# Altium integrated library Linear Technology Power Management Battery Management.IntLib: 626 symbols (part 32 of 56)
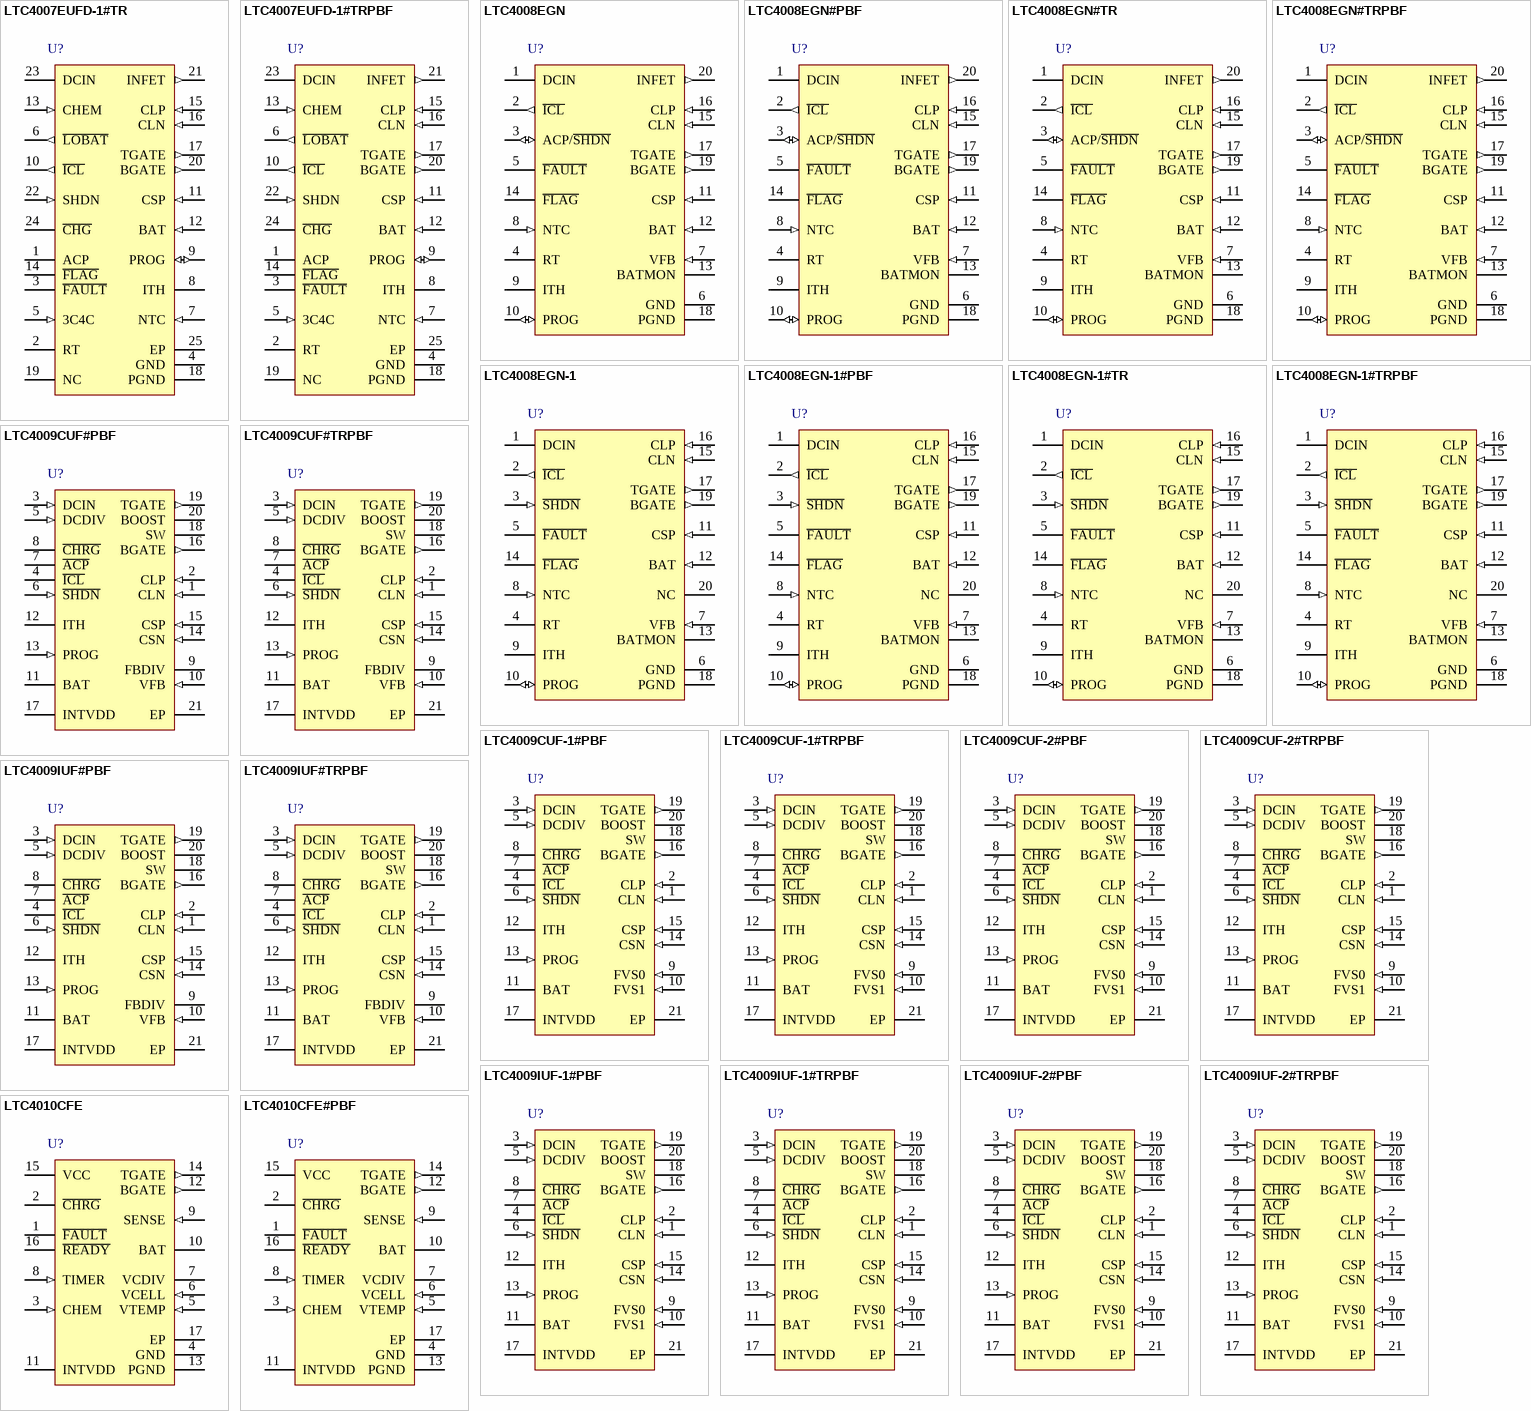
[diagram p53: symbols LTC4007EUFD-1#TR to LTC4010CFE#PBF]

## LTC4007EUFD-1#TR
designator U?
4 A, High Efficiency, Li-Ion Battery Charger, 6 to 28 V Vin, 24-pin QFN (UFD-24), -40 to 85 degC, Tape and Reel; Manufacturer: Linear Technology; PartNumber: LTC4007EUFD-1#TR; Battery Chemistry: Li-Ion, Li-Polymer; Charge Termination: On-board timer; Float Voltage: 12.3 V, 12.6 V, 16.4 V, 16.8 V; Max Charge Current(A): 4; Number of Cells: 3, 4; Type of Charger: Switching; Vin Max(V): 28; Vin Min(V): 6; PackageVersion: Rev. A, 06/2010; PackageReference: UFD-24; PackageDescription: 24-Pin Plastic QFN, Body 5 x 4 mm, Pitch 0.5 mm; Packing: Tape and Reel; RoHS: FALSE; Mounting Technology: Surface Mount; Code_JEDEC: MO-220; ComponentLink1Description: Manufacturer URL; ComponentLink1URL: http://www.linear.com/; ComponentLink2Description: Datasheet; ComponentLink2URL: http://cds.linear.com/docs/en/datasheet/40071f.pdf; ComponentLink3Description: Package Specification; ComponentLink3URL: http://cds.linear.com/docs/en/packaging/QFN_24_05-08-1696.pdf
footprint LT-UFD-24_N (QFN, 24-Leads, Body 5.1x4.1mm, Pitch 0.5mm, Thermal Pad 3.65x2.65 mm, IPC Medium Density)
footprint LT-UFD-24_L (QFN, 24-Leads, Body 5.1x4.1mm, Pitch 0.5mm, Thermal Pad 3.65x2.65 mm, IPC High Density)
footprint LT-UFD-24_M (QFN, 24-Leads, Body 5.1x4.1mm, Pitch 0.5mm, Thermal Pad 3.65x2.65 mm, IPC Low Density)
pins: 1 ACP (oc) "Open-Drain output to indicate if the AC adapter voltage is adequate for charging. This pin is pulled low by an internal N-channel MOSFET if DCIN is below BAT. A pull-up resistor is required. The pin is capable of sinking at (See Datasheet)", 2 RT "Timer Resistor. The timer period is set by placing a resistor, RRT, to GND. This resistor is always required.", 3 ~{FAULT} (oc) "Active low open-drain output that indicates charger operation has stopped due to a low-battery conditioning error, or that charger operation is suspended due to the thermistor exceeding allowed values. A pull-up resistor is (See Datasheet)", 4 GND (power) "Ground for Low Power Circuitry.", 5 3C4C (in) "Select 3-cell or 4-cell float voltage by connecting this pin to GND or open, respectively. Internal 14uA pull-up to 5.3V. This pin can also be driven with open-collector/drain logic levels. High: 4 cell. Low: 3 cell.", 6 ~{LOBAT} (out) "Low-Battery Indicator. Active low digital output. Internal 10uA pull-up to 3.5V. If the battery voltage is below 3.25V/cell (or 3.173V/cell for 4.1V chemistry batteries) L\O\B\A\T\ will be low. The pin is capable of sinking (See Datasheet)", 7 NTC (in) "A thermistor network is connected from NTC to GND. This pin determines if the battery temperature is safe for charging. The charger and timer are suspended and the F\A\U\L\T\ pin is driven low if the thermistor indicates a (See Datasheet)", 8 ITH "Control Signal of the Inner Loop of the Current Mode PWM. Higher ITH voltage corresponds to higher charging current in normal operation. A 6k resistor, in series with a capacitor of at least 0.1uF to GND provides loop (See Datasheet)", 9 PROG (io) "Current Programming/Monitoring Input/Output. An external resistor to GND programs the peak charging current in conjunction with the current sensing resistor. The voltage at this pin provides a linear indication of charging (See Datasheet)", 10 ~{ICL} (out) "Input Current Limit Indicator. Active low digital output. Internal 10uA pull-up to 3.5V. Pulled low if the charger current is being reduced by the input current limiting function. The pin is capable of sinking at least 100uA.(See Datasheet)", 11 CSP (in) "Current Amplifier CA1 Input. The CSP and BAT pins measure the voltage across the sense resistor, RSENSE, to provide the instantaneous current signals required for both peak and average current mode operation.", 12 BAT (in) "Battery Sense Input and the Negative Reference for the Current Sense Resistor. A precision internal resistor divider sets the final float potential on this pin. The resistor divider is disconnected during shutdown.", 13 CHEM (in) "Select 4.1V or 4.2V cell chemistry by connecting the pin to GND or open, respectively. Internal 14uA pull-up to 5.3V. Can also be driven with opencollector/drain logic levels.", 14 ~{FLAG} (oc) "Active low open-drain output that indicates when charging current has declined to 10% of maximum programmed current. A pull-up resistor is required if this function is used. The pin is capable of sinking at least 100uA.", 15 CLP (in) "Positive input to the supply current limiting amplifier, CL1. The threshold is set at 100mV above the voltage at the CLN pin. When used to limit supply current, a filter is needed to filter out the switching noise. If no (See Datasheet)", 16 CLN (in) "Negative Reference for the Input Current Limit Amplifier, CL1. This pin also serves as the power supply for the IC. A 10uF to 22uF bypass capacitor should be connected as close as possible to this pin.", 17 TGATE (out) "Drives the top external P-channel MOSFET of the battery charger buck converter.", 18 PGND (power) "High Current Ground Return for the BGATE Driver.", 19 NC "No Connect.", 20 BGATE (out) "Drives the bottom external N-channel MOSFET of the battery charger buck converter.", 21 INFET (out) "Drives the Gate of the External Input PFET.", 22 SHDN (in) "Charger is shut down and timer is reset when this pin is HIGH. Internal 10uA pull-up to 3.5V. This pin can also be used to reset the charger by applying a positive pulse that is a minimum of 0.1us long.", 23 DCIN (power) "External DC Power Source Input. Bypass this pin with at least 0.01uF. See Applications Information.", 24 ~{CHG} (hiz) "Charge Status Output. When the battery is being charged, the C\H\G\ pin is pulled low by an internal N-channel MOSFET. Internal 10uA pull-up to 3.5V. If VLOGIC is greater than 3.3V, add an external pull-up. The timer (See Datasheet)", 25 EP (power) "exposed pad, GND and PGND should be connected together with a low ohmic connection."

## LTC4007EUFD-1#TRPBF
designator U?
4 A, High Efficiency, Li-Ion Battery Charger, 6 to 28 V Vin, 24-pin QFN (UFD-24), -40 to 85 degC, Pb-Free, Tape and Reel; Manufacturer: Linear Technology; PartNumber: LTC4007EUFD-1#TRPBF; Battery Chemistry: Li-Ion, Li-Polymer; Charge Termination: On-board timer; Float Voltage: 12.3 V, 12.6 V, 16.4 V, 16.8 V; Max Charge Current(A): 4; Number of Cells: 3, 4; Type of Charger: Switching; Vin Max(V): 28; Vin Min(V): 6; PackageVersion: Rev. A, 06/2010; PackageReference: UFD-24; PackageDescription: 24-Pin Plastic QFN, Body 5 x 4 mm, Pitch 0.5 mm; Supplier 1: Digi-Key; Supplier Part Number 1: LTC4007EUFD-1#TRPBF-ND; Packing: Tape and Reel; RoHS: TRUE; Mounting Technology: Surface Mount; Code_JEDEC: MO-220; ComponentLink1Description: Manufacturer URL; ComponentLink1URL: http://www.linear.com/; ComponentLink2Description: Datasheet; ComponentLink2URL: http://cds.linear.com/docs/en/datasheet/40071f.pdf; ComponentLink3Description: Package Specification; ComponentLink3URL: http://cds.linear.com/docs/en/packaging/QFN_24_05-08-1696.pdf
footprint LT-UFD-24_N (QFN, 24-Leads, Body 5.1x4.1mm, Pitch 0.5mm, Thermal Pad 3.65x2.65 mm, IPC Medium Density)
footprint LT-UFD-24_L (QFN, 24-Leads, Body 5.1x4.1mm, Pitch 0.5mm, Thermal Pad 3.65x2.65 mm, IPC High Density)
footprint LT-UFD-24_M (QFN, 24-Leads, Body 5.1x4.1mm, Pitch 0.5mm, Thermal Pad 3.65x2.65 mm, IPC Low Density)
pins: 1 ACP (oc) "Open-Drain output to indicate if the AC adapter voltage is adequate for charging. This pin is pulled low by an internal N-channel MOSFET if DCIN is below BAT. A pull-up resistor is required. The pin is capable of sinking at (See Datasheet)", 2 RT "Timer Resistor. The timer period is set by placing a resistor, RRT, to GND. This resistor is always required.", 3 ~{FAULT} (oc) "Active low open-drain output that indicates charger operation has stopped due to a low-battery conditioning error, or that charger operation is suspended due to the thermistor exceeding allowed values. A pull-up resistor is (See Datasheet)", 4 GND (power) "Ground for Low Power Circuitry.", 5 3C4C (in) "Select 3-cell or 4-cell float voltage by connecting this pin to GND or open, respectively. Internal 14uA pull-up to 5.3V. This pin can also be driven with open-collector/drain logic levels. High: 4 cell. Low: 3 cell.", 6 ~{LOBAT} (out) "Low-Battery Indicator. Active low digital output. Internal 10uA pull-up to 3.5V. If the battery voltage is below 3.25V/cell (or 3.173V/cell for 4.1V chemistry batteries) L\O\B\A\T\ will be low. The pin is capable of sinking (See Datasheet)", 7 NTC (in) "A thermistor network is connected from NTC to GND. This pin determines if the battery temperature is safe for charging. The charger and timer are suspended and the F\A\U\L\T\ pin is driven low if the thermistor indicates a (See Datasheet)", 8 ITH "Control Signal of the Inner Loop of the Current Mode PWM. Higher ITH voltage corresponds to higher charging current in normal operation. A 6k resistor, in series with a capacitor of at least 0.1uF to GND provides loop (See Datasheet)", 9 PROG (io) "Current Programming/Monitoring Input/Output. An external resistor to GND programs the peak charging current in conjunction with the current sensing resistor. The voltage at this pin provides a linear indication of charging (See Datasheet)", 10 ~{ICL} (out) "Input Current Limit Indicator. Active low digital output. Internal 10uA pull-up to 3.5V. Pulled low if the charger current is being reduced by the input current limiting function. The pin is capable of sinking at least 100uA.(See Datasheet)", 11 CSP (in) "Current Amplifier CA1 Input. The CSP and BAT pins measure the voltage across the sense resistor, RSENSE, to provide the instantaneous current signals required for both peak and average current mode operation.", 12 BAT (in) "Battery Sense Input and the Negative Reference for the Current Sense Resistor. A precision internal resistor divider sets the final float potential on this pin. The resistor divider is disconnected during shutdown.", 13 CHEM (in) "Select 4.1V or 4.2V cell chemistry by connecting the pin to GND or open, respectively. Internal 14uA pull-up to 5.3V. Can also be driven with opencollector/drain logic levels.", 14 ~{FLAG} (oc) "Active low open-drain output that indicates when charging current has declined to 10% of maximum programmed current. A pull-up resistor is required if this function is used. The pin is capable of sinking at least 100uA.", 15 CLP (in) "Positive input to the supply current limiting amplifier, CL1. The threshold is set at 100mV above the voltage at the CLN pin. When used to limit supply current, a filter is needed to filter out the switching noise. If no (See Datasheet)", 16 CLN (in) "Negative Reference for the Input Current Limit Amplifier, CL1. This pin also serves as the power supply for the IC. A 10uF to 22uF bypass capacitor should be connected as close as possible to this pin.", 17 TGATE (out) "Drives the top external P-channel MOSFET of the battery charger buck converter.", 18 PGND (power) "High Current Ground Return for the BGATE Driver.", 19 NC "No Connect.", 20 BGATE (out) "Drives the bottom external N-channel MOSFET of the battery charger buck converter.", 21 INFET (out) "Drives the Gate of the External Input PFET.", 22 SHDN (in) "Charger is shut down and timer is reset when this pin is HIGH. Internal 10uA pull-up to 3.5V. This pin can also be used to reset the charger by applying a positive pulse that is a minimum of 0.1us long.", 23 DCIN (power) "External DC Power Source Input. Bypass this pin with at least 0.01uF. See Applications Information.", 24 ~{CHG} (hiz) "Charge Status Output. When the battery is being charged, the C\H\G\ pin is pulled low by an internal N-channel MOSFET. Internal 10uA pull-up to 3.5V. If VLOGIC is greater than 3.3V, add an external pull-up. The timer (See Datasheet)", 25 EP (power) "exposed pad, GND and PGND should be connected together with a low ohmic connection."

## LTC4008EGN
designator U?
4 A, High Efficiency, Multi-Chemistry Battery Charger, 6 to 28 V Vin, 20-pin SOP (GN-20), -40 to 125 degC; Manufacturer: Linear Technology; PartNumber: LTC4008EGN; Battery Chemistry: Li-Ion, Li-Polymer, NiCd, NiMH, LiFePO4, Lead Acid; Charge Termination: Microcontroller; Float Voltage: Adj; Max Charge Current(A): 4; Number of Cells: 1 to 6 (Li), 4 to 18 (Ni); Type of Charger: Switching; Vin Max(V): 28; Vin Min(V): 6; DatasheetVersion: Rev. B; PackageVersion: Rev. B, 03/2012; PackageReference: GN-20; PackageDescription: 20-Pin Plastic SSOP, Body 8.649 x 3.899 mm, Pitch 0.635 mm; Supplier 1: Digi-Key; Supplier Part Number 1: LTC4008EGN-ND; Supplier 2: Newark; Supplier Part Number 2: 56M8657; RoHS: FALSE; Mounting Technology: Surface Mount; ComponentLink1Description: Manufacturer URL; ComponentLink1URL: http://www.linear.com/; ComponentLink2Description: Datasheet; ComponentLink2URL: http://cds.linear.com/docs/en/datasheet/4008fb.pdf; ComponentLink3Description: Package Specification; ComponentLink3URL: http://cds.linear.com/docs/en/packaging/05081641_B_GN20.pdf
footprint LT-GN-20_N (SOP, 20-Leads, Body 8.7x4mm, Pitch 0.635mm, IPC Medium Density)
footprint LT-GN-20_L (SOP, 20-Leads, Body 8.7x4mm, Pitch 0.635mm, IPC High Density)
footprint LT-GN-20_M (SOP, 20-Leads, Body 8.7x4mm, Pitch 0.635mm, IPC Low Density)
pins: 1 DCIN (power) "External DC Power Source Input. Bypass this pin with at least 0.01uF. See Applications Information section.", 2 ~{ICL} (out) "Input Current Limit Indicator. Active low digital output. Internal 10uA pull-up to 3.5V. Pulled low if the charger current is being reduced by the input current limiting function. The pin is capable of sinking at least 100uA.(See Datasheet)", 3 ACP/~{SHDN} (io) "Open-drain output used to indicate if the AC adapter voltage is adequate for charging. Active high digital output. Internal 10uA pull-up to 3.5V. The charger can also be shutdown by pulling this pin below 1V. The pin is (See Datasheet)", 4 RT "Thermistor Clocking Resistor. Use a 150k resistor as a nominal value. This resistor is always required. If this resistor is not present, the charger will not start.", 5 ~{FAULT} (oc) "Active low open-drain output that indicates that charger operation has suspended due to the thermistor exceeding allowed values. A pull-up resistor is required if this function is used. The pin is capable of sinking at least (See Datasheet)", 6 GND (power) "Ground for Low Power Circuitry.", 7 VFB (in) "Input of Voltage Feedback Error Amplifier, EA, in the Block Diagram.", 8 NTC (in) "A thermistor network is connected from NTC to GND. This pin determines if the battery temperature is safe for charging. The charger and timer are suspended and the F\A\U\L\T\ pin is driven low if the thermistor indicates a (See Datasheet)", 9 ITH "Control Signal of the Inner Loop of the Current Mode PWM. Higher ITH voltage corresponds to higher charging current in normal operation. A 6k resistor in series with a capacitor of at least 0.1uF to GND provides loop (See Datasheet)", 10 PROG (io) "Current Programming/Monitoring Input/ Output. An external resistor to GND programs the peak charging current in conjunction with the current sensing resistor. The voltage at this pin provides a linear indication of charging (See Datasheet)", 11 CSP (in) "Current Amplifier CA1 Input. The CSP and BAT pins measure the voltage across the sense resistor, RSENSE, to provide the instantaneous current signals required for both peak and average current mode operation.", 12 BAT (in) "Battery Sense Input and the Negative Reference for the Current Sense Resistor.", 13 BATMON (power) "Output Voltage Representing Battery Voltage. Switched off to reduce standby current drain when AC is not present. An external voltage divider from BATMON to VFB sets the charger float voltage. Recommended minimum loa(See Datasheet)", 14 ~{FLAG} (oc) "Active low open-drain output that indicates when charging current has declined to 10% of max programmed current. A pull-up resistor is required if this function is used. The pin is capable of sinking at least 100uA. This (See Datasheet)", 15 CLN (in) "Negative Input to the Input Current Limiting  Amplier CL1. The threshold is set at 100mV below the voltage at the CLP pin. When used to limit input current,  a filter is needed to filter out the switching noise. (See Datasheet)", 16 CLP (in) "This pin serves as a positive reference for the input current limit amplifier, CL1. It also serves as the power supply for the IC.", 17 TGATE (out) "Drives the top external PMOSFET of the battery charger buck converter.", 18 PGND (power) "High Current Ground Return for BGATE Driver.", 19 BGATE (out) "Drives the bottom external N-MOSFET of the battery charger buck converter.", 20 INFET (out) "Drives the gate of the external input P-MOSFET."

## LTC4008EGN#PBF
designator U?
4 A, High Efficiency, Multi-Chemistry Battery Charger, 6 to 28 V Vin, 20-pin SOP (GN-20), -40 to 125 degC, Pb-Free; Manufacturer: Linear Technology; PartNumber: LTC4008EGN#PBF; Battery Chemistry: Li-Ion, Li-Polymer, NiCd, NiMH, LiFePO4, Lead Acid; Charge Termination: Microcontroller; Float Voltage: Adj; Max Charge Current(A): 4; Number of Cells: 1 to 6 (Li), 4 to 18 (Ni); Type of Charger: Switching; Vin Max(V): 28; Vin Min(V): 6; DatasheetVersion: Rev. B; PackageVersion: Rev. B, 03/2012; PackageReference: GN-20; PackageDescription: 20-Pin Plastic SSOP, Body 8.649 x 3.899 mm, Pitch 0.635 mm; Supplier 1: Digi-Key; Supplier Part Number 1: LTC4008EGN#PBF-ND; Supplier 2: Farnell; Supplier Part Number 2: 1273983; Supplier 3: Newark; Supplier Part Number 3: 56M8662; RoHS: TRUE; Mounting Technology: Surface Mount; ComponentLink1Description: Manufacturer URL; ComponentLink1URL: http://www.linear.com/; ComponentLink2Description: Datasheet; ComponentLink2URL: http://cds.linear.com/docs/en/datasheet/4008fb.pdf; ComponentLink3Description: Package Specification; ComponentLink3URL: http://cds.linear.com/docs/en/packaging/05081641_B_GN20.pdf
footprint LT-GN-20_N (SOP, 20-Leads, Body 8.7x4mm, Pitch 0.635mm, IPC Medium Density)
footprint LT-GN-20_L (SOP, 20-Leads, Body 8.7x4mm, Pitch 0.635mm, IPC High Density)
footprint LT-GN-20_M (SOP, 20-Leads, Body 8.7x4mm, Pitch 0.635mm, IPC Low Density)
pins: 1 DCIN (power) "External DC Power Source Input. Bypass this pin with at least 0.01uF. See Applications Information section.", 2 ~{ICL} (out) "Input Current Limit Indicator. Active low digital output. Internal 10uA pull-up to 3.5V. Pulled low if the charger current is being reduced by the input current limiting function. The pin is capable of sinking at least 100uA.(See Datasheet)", 3 ACP/~{SHDN} (io) "Open-drain output used to indicate if the AC adapter voltage is adequate for charging. Active high digital output. Internal 10uA pull-up to 3.5V. The charger can also be shutdown by pulling this pin below 1V. The pin is (See Datasheet)", 4 RT "Thermistor Clocking Resistor. Use a 150k resistor as a nominal value. This resistor is always required. If this resistor is not present, the charger will not start.", 5 ~{FAULT} (oc) "Active low open-drain output that indicates that charger operation has suspended due to the thermistor exceeding allowed values. A pull-up resistor is required if this function is used. The pin is capable of sinking at least (See Datasheet)", 6 GND (power) "Ground for Low Power Circuitry.", 7 VFB (in) "Input of Voltage Feedback Error Amplifier, EA, in the Block Diagram.", 8 NTC (in) "A thermistor network is connected from NTC to GND. This pin determines if the battery temperature is safe for charging. The charger and timer are suspended and the F\A\U\L\T\ pin is driven low if the thermistor indicates a (See Datasheet)", 9 ITH "Control Signal of the Inner Loop of the Current Mode PWM. Higher ITH voltage corresponds to higher charging current in normal operation. A 6k resistor in series with a capacitor of at least 0.1uF to GND provides loop (See Datasheet)", 10 PROG (io) "Current Programming/Monitoring Input/ Output. An external resistor to GND programs the peak charging current in conjunction with the current sensing resistor. The voltage at this pin provides a linear indication of charging (See Datasheet)", 11 CSP (in) "Current Amplifier CA1 Input. The CSP and BAT pins measure the voltage across the sense resistor, RSENSE, to provide the instantaneous current signals required for both peak and average current mode operation.", 12 BAT (in) "Battery Sense Input and the Negative Reference for the Current Sense Resistor.", 13 BATMON (power) "Output Voltage Representing Battery Voltage. Switched off to reduce standby current drain when AC is not present. An external voltage divider from BATMON to VFB sets the charger float voltage. Recommended minimum loa(See Datasheet)", 14 ~{FLAG} (oc) "Active low open-drain output that indicates when charging current has declined to 10% of max programmed current. A pull-up resistor is required if this function is used. The pin is capable of sinking at least 100uA. This (See Datasheet)", 15 CLN (in) "Negative Input to the Input Current Limiting  Amplier CL1. The threshold is set at 100mV below the voltage at the CLP pin. When used to limit input current,  a filter is needed to filter out the switching noise. (See Datasheet)", 16 CLP (in) "This pin serves as a positive reference for the input current limit amplifier, CL1. It also serves as the power supply for the IC.", 17 TGATE (out) "Drives the top external PMOSFET of the battery charger buck converter.", 18 PGND (power) "High Current Ground Return for BGATE Driver.", 19 BGATE (out) "Drives the bottom external N-MOSFET of the battery charger buck converter.", 20 INFET (out) "Drives the gate of the external input P-MOSFET."

## LTC4008EGN#TR
designator U?
4 A, High Efficiency, Multi-Chemistry Battery Charger, 6 to 28 V Vin, 20-pin SOP (GN-20), -40 to 125 degC, Tape and Reel; Manufacturer: Linear Technology; PartNumber: LTC4008EGN#TR; Battery Chemistry: Li-Ion, Li-Polymer, NiCd, NiMH, LiFePO4, Lead Acid; Charge Termination: Microcontroller; Float Voltage: Adj; Max Charge Current(A): 4; Number of Cells: 1 to 6 (Li), 4 to 18 (Ni); Type of Charger: Switching; Vin Max(V): 28; Vin Min(V): 6; DatasheetVersion: Rev. B; PackageVersion: Rev. B, 03/2012; PackageReference: GN-20; PackageDescription: 20-Pin Plastic SSOP, Body 8.649 x 3.899 mm, Pitch 0.635 mm; Supplier 1: Digi-Key; Supplier Part Number 1: LTC4008EGN#TR-ND; Packing: Tape and Reel; RoHS: FALSE; Mounting Technology: Surface Mount; ComponentLink1Description: Manufacturer URL; ComponentLink1URL: http://www.linear.com/; ComponentLink2Description: Datasheet; ComponentLink2URL: http://cds.linear.com/docs/en/datasheet/4008fb.pdf; ComponentLink3Description: Package Specification; ComponentLink3URL: http://cds.linear.com/docs/en/packaging/05081641_B_GN20.pdf
footprint LT-GN-20_N (SOP, 20-Leads, Body 8.7x4mm, Pitch 0.635mm, IPC Medium Density)
footprint LT-GN-20_L (SOP, 20-Leads, Body 8.7x4mm, Pitch 0.635mm, IPC High Density)
footprint LT-GN-20_M (SOP, 20-Leads, Body 8.7x4mm, Pitch 0.635mm, IPC Low Density)
pins: 1 DCIN (power) "External DC Power Source Input. Bypass this pin with at least 0.01uF. See Applications Information section.", 2 ~{ICL} (out) "Input Current Limit Indicator. Active low digital output. Internal 10uA pull-up to 3.5V. Pulled low if the charger current is being reduced by the input current limiting function. The pin is capable of sinking at least 100uA.(See Datasheet)", 3 ACP/~{SHDN} (io) "Open-drain output used to indicate if the AC adapter voltage is adequate for charging. Active high digital output. Internal 10uA pull-up to 3.5V. The charger can also be shutdown by pulling this pin below 1V. The pin is (See Datasheet)", 4 RT "Thermistor Clocking Resistor. Use a 150k resistor as a nominal value. This resistor is always required. If this resistor is not present, the charger will not start.", 5 ~{FAULT} (oc) "Active low open-drain output that indicates that charger operation has suspended due to the thermistor exceeding allowed values. A pull-up resistor is required if this function is used. The pin is capable of sinking at least (See Datasheet)", 6 GND (power) "Ground for Low Power Circuitry.", 7 VFB (in) "Input of Voltage Feedback Error Amplifier, EA, in the Block Diagram.", 8 NTC (in) "A thermistor network is connected from NTC to GND. This pin determines if the battery temperature is safe for charging. The charger and timer are suspended and the F\A\U\L\T\ pin is driven low if the thermistor indicates a (See Datasheet)", 9 ITH "Control Signal of the Inner Loop of the Current Mode PWM. Higher ITH voltage corresponds to higher charging current in normal operation. A 6k resistor in series with a capacitor of at least 0.1uF to GND provides loop (See Datasheet)", 10 PROG (io) "Current Programming/Monitoring Input/ Output. An external resistor to GND programs the peak charging current in conjunction with the current sensing resistor. The voltage at this pin provides a linear indication of charging (See Datasheet)", 11 CSP (in) "Current Amplifier CA1 Input. The CSP and BAT pins measure the voltage across the sense resistor, RSENSE, to provide the instantaneous current signals required for both peak and average current mode operation.", 12 BAT (in) "Battery Sense Input and the Negative Reference for the Current Sense Resistor.", 13 BATMON (power) "Output Voltage Representing Battery Voltage. Switched off to reduce standby current drain when AC is not present. An external voltage divider from BATMON to VFB sets the charger float voltage. Recommended minimum loa(See Datasheet)", 14 ~{FLAG} (oc) "Active low open-drain output that indicates when charging current has declined to 10% of max programmed current. A pull-up resistor is required if this function is used. The pin is capable of sinking at least 100uA. This (See Datasheet)", 15 CLN (in) "Negative Input to the Input Current Limiting  Amplier CL1. The threshold is set at 100mV below the voltage at the CLP pin. When used to limit input current,  a filter is needed to filter out the switching noise. (See Datasheet)", 16 CLP (in) "This pin serves as a positive reference for the input current limit amplifier, CL1. It also serves as the power supply for the IC.", 17 TGATE (out) "Drives the top external PMOSFET of the battery charger buck converter.", 18 PGND (power) "High Current Ground Return for BGATE Driver.", 19 BGATE (out) "Drives the bottom external N-MOSFET of the battery charger buck converter.", 20 INFET (out) "Drives the gate of the external input P-MOSFET."

## LTC4008EGN#TRPBF
designator U?
4 A, High Efficiency, Multi-Chemistry Battery Charger, 6 to 28 V Vin, 20-pin SOP (GN-20), -40 to 125 degC, Pb-Free, Tape and Reel; Manufacturer: Linear Technology; PartNumber: LTC4008EGN#TRPBF; Battery Chemistry: Li-Ion, Li-Polymer, NiCd, NiMH, LiFePO4, Lead Acid; Charge Termination: Microcontroller; Float Voltage: Adj; Max Charge Current(A): 4; Number of Cells: 1 to 6 (Li), 4 to 18 (Ni); Type of Charger: Switching; Vin Max(V): 28; Vin Min(V): 6; DatasheetVersion: Rev. B; PackageVersion: Rev. B, 03/2012; PackageReference: GN-20; PackageDescription: 20-Pin Plastic SSOP, Body 8.649 x 3.899 mm, Pitch 0.635 mm; Supplier 1: Digi-Key; Supplier Part Number 1: LTC4008EGN#TRPBF-ND; Packing: Tape and Reel; RoHS: TRUE; Mounting Technology: Surface Mount; ComponentLink1Description: Manufacturer URL; ComponentLink1URL: http://www.linear.com/; ComponentLink2Description: Datasheet; ComponentLink2URL: http://cds.linear.com/docs/en/datasheet/4008fb.pdf; ComponentLink3Description: Package Specification; ComponentLink3URL: http://cds.linear.com/docs/en/packaging/05081641_B_GN20.pdf
footprint LT-GN-20_N (SOP, 20-Leads, Body 8.7x4mm, Pitch 0.635mm, IPC Medium Density)
footprint LT-GN-20_L (SOP, 20-Leads, Body 8.7x4mm, Pitch 0.635mm, IPC High Density)
footprint LT-GN-20_M (SOP, 20-Leads, Body 8.7x4mm, Pitch 0.635mm, IPC Low Density)
pins: 1 DCIN (power) "External DC Power Source Input. Bypass this pin with at least 0.01uF. See Applications Information section.", 2 ~{ICL} (out) "Input Current Limit Indicator. Active low digital output. Internal 10uA pull-up to 3.5V. Pulled low if the charger current is being reduced by the input current limiting function. The pin is capable of sinking at least 100uA.(See Datasheet)", 3 ACP/~{SHDN} (io) "Open-drain output used to indicate if the AC adapter voltage is adequate for charging. Active high digital output. Internal 10uA pull-up to 3.5V. The charger can also be shutdown by pulling this pin below 1V. The pin is (See Datasheet)", 4 RT "Thermistor Clocking Resistor. Use a 150k resistor as a nominal value. This resistor is always required. If this resistor is not present, the charger will not start.", 5 ~{FAULT} (oc) "Active low open-drain output that indicates that charger operation has suspended due to the thermistor exceeding allowed values. A pull-up resistor is required if this function is used. The pin is capable of sinking at least (See Datasheet)", 6 GND (power) "Ground for Low Power Circuitry.", 7 VFB (in) "Input of Voltage Feedback Error Amplifier, EA, in the Block Diagram.", 8 NTC (in) "A thermistor network is connected from NTC to GND. This pin determines if the battery temperature is safe for charging. The charger and timer are suspended and the F\A\U\L\T\ pin is driven low if the thermistor indicates a (See Datasheet)", 9 ITH "Control Signal of the Inner Loop of the Current Mode PWM. Higher ITH voltage corresponds to higher charging current in normal operation. A 6k resistor in series with a capacitor of at least 0.1uF to GND provides loop (See Datasheet)", 10 PROG (io) "Current Programming/Monitoring Input/ Output. An external resistor to GND programs the peak charging current in conjunction with the current sensing resistor. The voltage at this pin provides a linear indication of charging (See Datasheet)", 11 CSP (in) "Current Amplifier CA1 Input. The CSP and BAT pins measure the voltage across the sense resistor, RSENSE, to provide the instantaneous current signals required for both peak and average current mode operation.", 12 BAT (in) "Battery Sense Input and the Negative Reference for the Current Sense Resistor.", 13 BATMON (power) "Output Voltage Representing Battery Voltage. Switched off to reduce standby current drain when AC is not present. An external voltage divider from BATMON to VFB sets the charger float voltage. Recommended minimum loa(See Datasheet)", 14 ~{FLAG} (oc) "Active low open-drain output that indicates when charging current has declined to 10% of max programmed current. A pull-up resistor is required if this function is used. The pin is capable of sinking at least 100uA. This (See Datasheet)", 15 CLN (in) "Negative Input to the Input Current Limiting  Amplier CL1. The threshold is set at 100mV below the voltage at the CLP pin. When used to limit input current,  a filter is needed to filter out the switching noise. (See Datasheet)", 16 CLP (in) "This pin serves as a positive reference for the input current limit amplifier, CL1. It also serves as the power supply for the IC.", 17 TGATE (out) "Drives the top external PMOSFET of the battery charger buck converter.", 18 PGND (power) "High Current Ground Return for BGATE Driver.", 19 BGATE (out) "Drives the bottom external N-MOSFET of the battery charger buck converter.", 20 INFET (out) "Drives the gate of the external input P-MOSFET."

## LTC4008EGN-1
designator U?
4 A, High Efficiency, Multi-Chemistry Battery Charger, 6 to 28 V Vin, 20-pin SOP (GN-20), -40 to 125 degC; Manufacturer: Linear Technology; PartNumber: LTC4008EGN-1; Battery Chemistry: Li-Ion, Li-Polymer, NiCd, NiMH, LiFePO4, Lead Acid; Charge Termination: Microcontroller; Float Voltage: Adj; Max Charge Current(A): 4; Number of Cells: 1 to 6 (Li), 4 to 18 (Ni); Type of Charger: Switching; Vin Max(V): 28; Vin Min(V): 6; DatasheetVersion: Rev. B; PackageVersion: Rev. B, 03/2012; PackageReference: GN-20; PackageDescription: 20-Pin Plastic SSOP, Body 8.649 x 3.899 mm, Pitch 0.635 mm; Supplier 1: Digi-Key; Supplier Part Number 1: LTC4008EGN-1-ND; RoHS: FALSE; Mounting Technology: Surface Mount; ComponentLink1Description: Manufacturer URL; ComponentLink1URL: http://www.linear.com/; ComponentLink2Description: Datasheet; ComponentLink2URL: http://cds.linear.com/docs/en/datasheet/4008fb.pdf; ComponentLink3Description: Package Specification; ComponentLink3URL: http://cds.linear.com/docs/en/packaging/05081641_B_GN20.pdf
footprint LT-GN-20_N (SOP, 20-Leads, Body 8.7x4mm, Pitch 0.635mm, IPC Medium Density)
footprint LT-GN-20_L (SOP, 20-Leads, Body 8.7x4mm, Pitch 0.635mm, IPC High Density)
footprint LT-GN-20_M (SOP, 20-Leads, Body 8.7x4mm, Pitch 0.635mm, IPC Low Density)
pins: 1 DCIN (power) "External DC Power Source Input. Bypass this pin with at least 0.01uF. See Applications Information section.", 2 ~{ICL} (out) "Input Current Limit Indicator. Active low digital output. Internal 10uA pull-up to 3.5V. Pulled low if the charger current is being reduced by the input current limiting function. The pin is capable of sinking at least 100uA.(See Datasheet)", 3 ~{SHDN} (in) "The charger can also be shutdown by pulling this pin below 1V. The pin is capable of sinking at least 100uA. If VLOGIC > 3.3V, add  an external pull-up.", 4 RT "Thermistor Clocking Resistor. Use a 150k resistor as a nominal value. This resistor is always required. If this resistor is not present, the charger will not start.", 5 ~{FAULT} (oc) "Active low open-drain output that indicates that charger operation has suspended due to the thermistor exceeding allowed values. A pull-up resistor is required if this function is used. The pin is capable of sinking at least (See Datasheet)", 6 GND (power) "Ground for Low Power Circuitry.", 7 VFB (in) "Input of Voltage Feedback Error Amplifier, EA, in the Block Diagram.", 8 NTC (in) "A thermistor network is connected from NTC to GND. This pin determines if the battery temperature is safe for charging. The charger and timer are suspended and the F\A\U\L\T\ pin is driven low if the thermistor indicates a (See Datasheet)", 9 ITH "Control Signal of the Inner Loop of the Current Mode PWM. Higher ITH voltage corresponds to higher charging current in normal operation. A 6k resistor in series with a capacitor of at least 0.1uF to GND provides loop (See Datasheet)", 10 PROG (io) "Current Programming/Monitoring Input/ Output. An external resistor to GND programs the peak charging current in conjunction with the current sensing resistor. The voltage at this pin provides a linear indication of charging (See Datasheet)", 11 CSP (in) "Current Ampli?er CA1 Input. The CSP and BAT pins measure the voltage across the sense resistor, RSENSE, to provide the instantaneous current signals required for both peak and average current mode operation.", 12 BAT (in) "Battery Sense Input and the Negative Reference for the Current Sense Resistor.", 13 BATMON (power) "Output Voltage Representing Battery Voltage. Switched off to reduce standby current drain when AC is not present. An external voltage divider from BATMON to VFB sets the charger ?oat voltage. Recommended minimum loa(See Datasheet)", 14 ~{FLAG} (oc) "Active low open-drain output that indicates when charging current has declined to 10% of max programmed current. A pull-up resistor is required if this function is used. The pin is capable of sinking at least 100uA. This (See Datasheet)", 15 CLN (in) "Negative Input to the Input Current Limiting  Amplifier CL1. The threshold is set at 100mV below the voltage at the CLP pin. When used to limit input current,  a filter is needed to ?lter out the switching noise. (See Datasheet)", 16 CLP (in) "This pin serves as a positive reference for the input current limit amplifier, CL1. It also serves as the power supply for the IC.", 17 TGATE (out) "Drives the top external PMOSFET of the battery charger buck converter.", 18 PGND (power) "High Current Ground Return for BGATE Driver.", 19 BGATE (out) "Drives the bottom external N-MOSFET of the battery charger buck converter.", 20 NC "No Connection"

## LTC4008EGN-1#PBF
designator U?
4 A, High Efficiency, Multi-Chemistry Battery Charger, 6 to 28 V Vin, 20-pin SOP (GN-20), -40 to 125 degC, Pb-Free; Manufacturer: Linear Technology; PartNumber: LTC4008EGN-1#PBF; Battery Chemistry: Li-Ion, Li-Polymer, NiCd, NiMH, LiFePO4, Lead Acid; Charge Termination: Microcontroller; Float Voltage: Adj; Max Charge Current(A): 4; Number of Cells: 1 to 6 (Li), 4 to 18 (Ni); Type of Charger: Switching; Vin Max(V): 28; Vin Min(V): 6; DatasheetVersion: Rev. B; PackageVersion: Rev. B, 03/2012; PackageReference: GN-20; PackageDescription: 20-Pin Plastic SSOP, Body 8.649 x 3.899 mm, Pitch 0.635 mm; Supplier 1: Digi-Key; Supplier Part Number 1: LTC4008EGN-1#PBF-ND; RoHS: TRUE; Mounting Technology: Surface Mount; ComponentLink1Description: Manufacturer URL; ComponentLink1URL: http://www.linear.com/; ComponentLink2Description: Datasheet; ComponentLink2URL: http://cds.linear.com/docs/en/datasheet/4008fb.pdf; ComponentLink3Description: Package Specification; ComponentLink3URL: http://cds.linear.com/docs/en/packaging/05081641_B_GN20.pdf
footprint LT-GN-20_N (SOP, 20-Leads, Body 8.7x4mm, Pitch 0.635mm, IPC Medium Density)
footprint LT-GN-20_L (SOP, 20-Leads, Body 8.7x4mm, Pitch 0.635mm, IPC High Density)
footprint LT-GN-20_M (SOP, 20-Leads, Body 8.7x4mm, Pitch 0.635mm, IPC Low Density)
pins: 1 DCIN (power) "External DC Power Source Input. Bypass this pin with at least 0.01uF. See Applications Information section.", 2 ~{ICL} (out) "Input Current Limit Indicator. Active low digital output. Internal 10uA pull-up to 3.5V. Pulled low if the charger current is being reduced by the input current limiting function. The pin is capable of sinking at least 100uA.(See Datasheet)", 3 ~{SHDN} (in) "The charger can also be shutdown by pulling this pin below 1V. The pin is capable of sinking at least 100uA. If VLOGIC > 3.3V, add  an external pull-up.", 4 RT "Thermistor Clocking Resistor. Use a 150k resistor as a nominal value. This resistor is always required. If this resistor is not present, the charger will not start.", 5 ~{FAULT} (oc) "Active low open-drain output that indicates that charger operation has suspended due to the thermistor exceeding allowed values. A pull-up resistor is required if this function is used. The pin is capable of sinking at least (See Datasheet)", 6 GND (power) "Ground for Low Power Circuitry.", 7 VFB (in) "Input of Voltage Feedback Error Amplifier, EA, in the Block Diagram.", 8 NTC (in) "A thermistor network is connected from NTC to GND. This pin determines if the battery temperature is safe for charging. The charger and timer are suspended and the F\A\U\L\T\ pin is driven low if the thermistor indicates a (See Datasheet)", 9 ITH "Control Signal of the Inner Loop of the Current Mode PWM. Higher ITH voltage corresponds to higher charging current in normal operation. A 6k resistor in series with a capacitor of at least 0.1uF to GND provides loop (See Datasheet)", 10 PROG (io) "Current Programming/Monitoring Input/ Output. An external resistor to GND programs the peak charging current in conjunction with the current sensing resistor. The voltage at this pin provides a linear indication of charging (See Datasheet)", 11 CSP (in) "Current Ampli?er CA1 Input. The CSP and BAT pins measure the voltage across the sense resistor, RSENSE, to provide the instantaneous current signals required for both peak and average current mode operation.", 12 BAT (in) "Battery Sense Input and the Negative Reference for the Current Sense Resistor.", 13 BATMON (power) "Output Voltage Representing Battery Voltage. Switched off to reduce standby current drain when AC is not present. An external voltage divider from BATMON to VFB sets the charger ?oat voltage. Recommended minimum loa(See Datasheet)", 14 ~{FLAG} (oc) "Active low open-drain output that indicates when charging current has declined to 10% of max programmed current. A pull-up resistor is required if this function is used. The pin is capable of sinking at least 100uA. This (See Datasheet)", 15 CLN (in) "Negative Input to the Input Current Limiting  Amplifier CL1. The threshold is set at 100mV below the voltage at the CLP pin. When used to limit input current,  a filter is needed to ?lter out the switching noise. (See Datasheet)", 16 CLP (in) "This pin serves as a positive reference for the input current limit amplifier, CL1. It also serves as the power supply for the IC.", 17 TGATE (out) "Drives the top external PMOSFET of the battery charger buck converter.", 18 PGND (power) "High Current Ground Return for BGATE Driver.", 19 BGATE (out) "Drives the bottom external N-MOSFET of the battery charger buck converter.", 20 NC "No Connection"

## LTC4008EGN-1#TR
designator U?
4 A, High Efficiency, Multi-Chemistry Battery Charger, 6 to 28 V Vin, 20-pin SOP (GN-20), -40 to 125 degC, Tape and Reel; Manufacturer: Linear Technology; PartNumber: LTC4008EGN-1#TR; Battery Chemistry: Li-Ion, Li-Polymer, NiCd, NiMH, LiFePO4, Lead Acid; Charge Termination: Microcontroller; Float Voltage: Adj; Max Charge Current(A): 4; Number of Cells: 1 to 6 (Li), 4 to 18 (Ni); Type of Charger: Switching; Vin Max(V): 28; Vin Min(V): 6; DatasheetVersion: Rev. B; PackageVersion: Rev. B, 03/2012; PackageReference: GN-20; PackageDescription: 20-Pin Plastic SSOP, Body 8.649 x 3.899 mm, Pitch 0.635 mm; Supplier 1: Digi-Key; Supplier Part Number 1: LTC4008EGN-1#TR-ND; Packing: Tape and Reel; RoHS: FALSE; Mounting Technology: Surface Mount; ComponentLink1Description: Manufacturer URL; ComponentLink1URL: http://www.linear.com/; ComponentLink2Description: Datasheet; ComponentLink2URL: http://cds.linear.com/docs/en/datasheet/4008fb.pdf; ComponentLink3Description: Package Specification; ComponentLink3URL: http://cds.linear.com/docs/en/packaging/05081641_B_GN20.pdf
footprint LT-GN-20_N (SOP, 20-Leads, Body 8.7x4mm, Pitch 0.635mm, IPC Medium Density)
footprint LT-GN-20_L (SOP, 20-Leads, Body 8.7x4mm, Pitch 0.635mm, IPC High Density)
footprint LT-GN-20_M (SOP, 20-Leads, Body 8.7x4mm, Pitch 0.635mm, IPC Low Density)
pins: 1 DCIN (power) "External DC Power Source Input. Bypass this pin with at least 0.01uF. See Applications Information section.", 2 ~{ICL} (out) "Input Current Limit Indicator. Active low digital output. Internal 10uA pull-up to 3.5V. Pulled low if the charger current is being reduced by the input current limiting function. The pin is capable of sinking at least 100uA.(See Datasheet)", 3 ~{SHDN} (in) "The charger can also be shutdown by pulling this pin below 1V. The pin is capable of sinking at least 100uA. If VLOGIC > 3.3V, add  an external pull-up.", 4 RT "Thermistor Clocking Resistor. Use a 150k resistor as a nominal value. This resistor is always required. If this resistor is not present, the charger will not start.", 5 ~{FAULT} (oc) "Active low open-drain output that indicates that charger operation has suspended due to the thermistor exceeding allowed values. A pull-up resistor is required if this function is used. The pin is capable of sinking at least (See Datasheet)", 6 GND (power) "Ground for Low Power Circuitry.", 7 VFB (in) "Input of Voltage Feedback Error Amplifier, EA, in the Block Diagram.", 8 NTC (in) "A thermistor network is connected from NTC to GND. This pin determines if the battery temperature is safe for charging. The charger and timer are suspended and the F\A\U\L\T\ pin is driven low if the thermistor indicates a (See Datasheet)", 9 ITH "Control Signal of the Inner Loop of the Current Mode PWM. Higher ITH voltage corresponds to higher charging current in normal operation. A 6k resistor in series with a capacitor of at least 0.1uF to GND provides loop (See Datasheet)", 10 PROG (io) "Current Programming/Monitoring Input/ Output. An external resistor to GND programs the peak charging current in conjunction with the current sensing resistor. The voltage at this pin provides a linear indication of charging (See Datasheet)", 11 CSP (in) "Current Ampli?er CA1 Input. The CSP and BAT pins measure the voltage across the sense resistor, RSENSE, to provide the instantaneous current signals required for both peak and average current mode operation.", 12 BAT (in) "Battery Sense Input and the Negative Reference for the Current Sense Resistor.", 13 BATMON (power) "Output Voltage Representing Battery Voltage. Switched off to reduce standby current drain when AC is not present. An external voltage divider from BATMON to VFB sets the charger ?oat voltage. Recommended minimum loa(See Datasheet)", 14 ~{FLAG} (oc) "Active low open-drain output that indicates when charging current has declined to 10% of max programmed current. A pull-up resistor is required if this function is used. The pin is capable of sinking at least 100uA. This (See Datasheet)", 15 CLN (in) "Negative Input to the Input Current Limiting  Amplifier CL1. The threshold is set at 100mV below the voltage at the CLP pin. When used to limit input current,  a filter is needed to ?lter out the switching noise. (See Datasheet)", 16 CLP (in) "This pin serves as a positive reference for the input current limit amplifier, CL1. It also serves as the power supply for the IC.", 17 TGATE (out) "Drives the top external PMOSFET of the battery charger buck converter.", 18 PGND (power) "High Current Ground Return for BGATE Driver.", 19 BGATE (out) "Drives the bottom external N-MOSFET of the battery charger buck converter.", 20 NC "No Connection"